# EAGLE library part JTAG (library apple-idun)
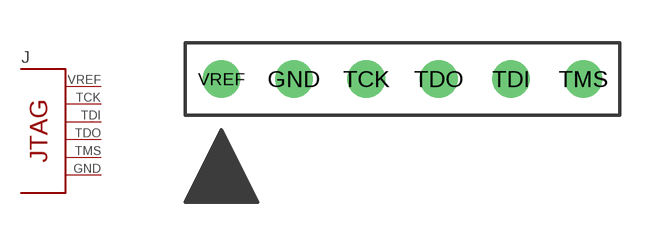
[diagram p2: symbol with the pads of JTAG; footprint JTAG]

Designator prefix J

## JTAG  [JTAG]
GND  GND  pwr
TCK  TCK  in
TDI  TDI  in
TDO  TDO  out
TMS  TMS  in
VREF  VREF  pwr

## Footprint JTAG (pad centres in mm)
drill 0.813: GND -3.81,0; TCK -1.27,0; TDI 3.81,0; TDO 1.27,0; TMS 6.35,0; VREF -6.35,0